# EAGLE library part ATTINY10 (library My Atmel)
Attiny10 edit this description Auto generated by make-symbol-device-package-bsdl.ulp Rev. 43 Source: Attiny10.txt
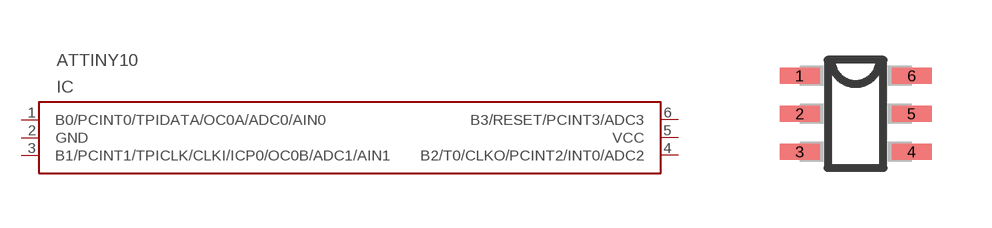
[diagram p4: symbol with the pads of SOT23-6; footprint SOT23-6]

Designator prefix IC

## ATTINY10  [SOT23-6]
1  B0/PCINT0/TPIDATA/OC0A/ADC0/AIN0
2  GND  pwr
3  B1/PCINT1/TPICLK/CLKI/ICP0/OC0B/ADC1/AIN1
4  B2/T0/CLKO/PCINT2/INT0/ADC2
5  VCC  pwr
6  B3/RESET/PCINT3/ADC3

## Footprint SOT23-6 (pad centres in mm)
SOT23-6 Auto generated by make-symbol-device-package-bsdl.ulp Rev. 43
smd 1 x 0.4: 1 -1.4,0.95; 2 -1.4,0; 3 -1.4,-0.95; 4 1.4,-0.95; 5 1.4,0; 6 1.4,0.95